# Altium schematic symbol library Memory.SchLib: 3 symbols
Pins are listed as number, name and electrical type; pins without a type are passive.

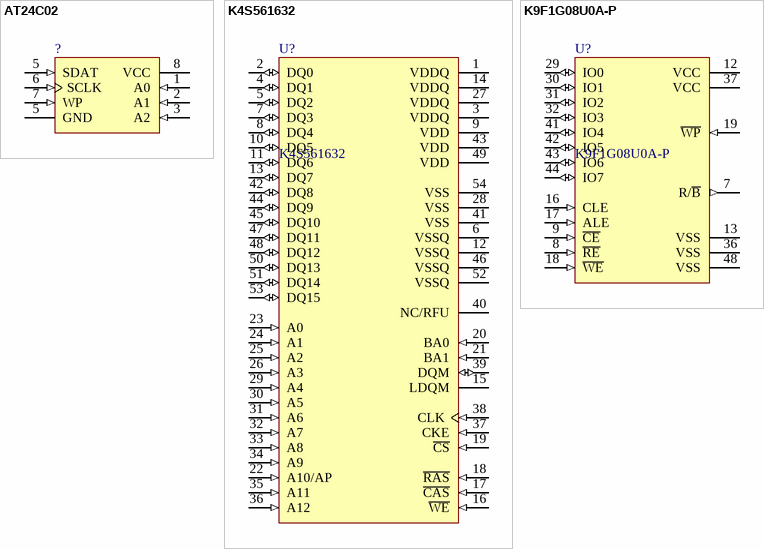
[diagram p0: symbols AT24C02 to K9F1G08U0A-P]

## AT24C02
designator ?  (value not drawn)
FPGA Configuration EEPROM 64K Memory; Published: 17-Jul-2002; LatestRevisionDate: 13-Apr-2006; LatestRevisionNote: IPC-7351 Footprint Added.; DatasheetVersion: Rev. 1636B-05/00; PackageReference: 8S1; Publisher: Altium Limited; PackageDescription: 8-Pin Small Outline Integrated Circuit 1.27 mm Pitch; Code_JEDEC: MS-012-AA; Code_IPC: SOIC127P600-8; ComponentLink1Description: Manufacturer Link; ComponentLink1URL: http://www.atmel.com; ComponentLink2Description: Datasheet; ComponentLink2URL: http://www.atmel.com/dyn/resources/prod_documents/doc2321.pdf
footprint 8S1_L_AT24C02 (SOIC, 8-Leads, Body 4.9x3.9mm, Pitch 1.27mm, IPC High Density)
pins: 1 A0 (in), 2 A1 (in), 3 A2 (in), 5 SDAT (in), 5 GND (power), 6 SCLK (in), 7 WP (in), 8 VCC (power)

## K4S561632
designator U?
256Mb H-die SDRAM; Published: 17-Jul-2002; LatestRevisionDate: 13-Apr-2006; LatestRevisionNote: IPC-7351 Footprint Added.; DatasheetVersion: Rev. 1636B-05/00; PackageReference: 8S1; Publisher: Altium Limited; PackageDescription: 8-Pin Small Outline Integrated Circuit 1.27 mm Pitch; Code_JEDEC: MS-012-AA; Code_IPC: SOIC127P600-8; ComponentLink1Description: Manufacturer Link; ComponentLink1URL: http://www.atmel.com; ComponentLink2Description: Datasheet; ComponentLink2URL: http://www.atmel.com/dyn/resources/prod_documents/doc2321.pdf
footprint TSOP2-54_L (SOP, 54-Leads, Body 22.2x10.16mm, Pitch 0.8mm, IPC High Density)
pins: 1 VDDQ (power), 2 DQ0 (io), 3 VDDQ (power), 4 DQ1 (io), 5 DQ2 (io), 6 VSSQ (power), 7 DQ3 (io), 8 DQ4 (io), 9 VDD (power), 10 DQ5 (io), 11 DQ6 (io), 12 VSSQ (power), 13 DQ7 (io), 14 VDDQ (power), 15 LDQM, 16 ~{WE} (in), 17 ~{CAS} (in), 18 ~{RAS} (in), 19 ~{CS} (in), 20 BA0 (in), 21 BA1 (in), 22 A10/AP (in), 23 A0 (in), 24 A1 (in), 25 A2 (in), 26 A3 (in), 27 VDDQ (power), 28 VSS (power), 29 A4 (in), 30 A5 (in), 31 A6 (in), 32 A7 (in), 33 A8 (in), 34 A9 (in), 35 A11 (in), 36 A12 (in), 37 CKE (in), 38 CLK (in), 39 DQM (io), 40 NC/RFU, 41 VSS (power), 42 DQ8 (io), 43 VDD (power), 44 DQ9 (io), 45 DQ10 (io), 46 VSSQ (power), 47 DQ11 (io), 48 DQ12 (io), 49 VDD (power), 50 DQ13 (io), 51 DQ14 (io), 52 VSSQ (power), 53 DQ15 (io), 54 VSS (power)

## K9F1G08U0A-P
designator U?
128M x 8 Bit NAND Flash Memory (128Mb); Published: 17-Jul-2002; LatestRevisionDate: 13-Apr-2006; LatestRevisionNote: IPC-7351 Footprint Added.; DatasheetVersion: Rev. 1636B-05/00; PackageReference: 8S1; Publisher: Altium Limited; PackageDescription: 8-Pin Small Outline Integrated Circuit 1.27 mm Pitch; Code_JEDEC: MS-012-AA; Code_IPC: SOIC127P600-8; ComponentLink1Description: Manufacturer Link; ComponentLink1URL: http://www.atmel.com; ComponentLink2Description: Datasheet; ComponentLink2URL: http://www.atmel.com/dyn/resources/prod_documents/doc2321.pdf
footprint TSOP48 (Shrink Small Outline, Plastic, Thin; 48 Leads; Body Width 18.4 mm; Pitch 0.5 mm)
pins: 7 R/~{B} (out), 8 ~{RE} (in), 9 ~{CE} (in), 12 VCC (power), 13 VSS (power), 16 CLE (in), 17 ALE (in), 18 ~{WE} (in), 19 ~{WP} (in), 29 IO0 (io), 30 IO1 (io), 31 IO2 (io), 32 IO3 (io), 36 VSS (power), 37 VCC (power), 41 IO4 (io), 42 IO5 (io), 43 IO6 (io), 44 IO7 (io), 48 VSS (power)